# Altium schematic symbol library DC-DC converters(AM1L-FZ).SchLib: 1 symbol
Pins are listed as number, name and electrical type; pins without a type are passive.

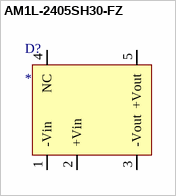
[diagram p0: symbol AM1L-2405SH30-FZ]

## AM1L-2405SH30-FZ
designator D?
AM1L-2405SH30-FZ, DC/DC преобразователь, 1 Вт, вход 21,6-26,4 В, выход 5 В/200 мА; Input voltage range: 21.6-26.4V; Output fixed voltage: 5V; Output current (max): 200 mA; Efficiency: 71%; Ouput power (max): 1W
footprint AM1L-FZ
pins: 1 -Vin, 2 +Vin, 3 -Vout, 4 NC, 5 +Vout